# EAGLE library part LCD-16X2 (library Eagle3D-Displays)
XIAMEN - ADM1602K - 16 x 2 LCD Module
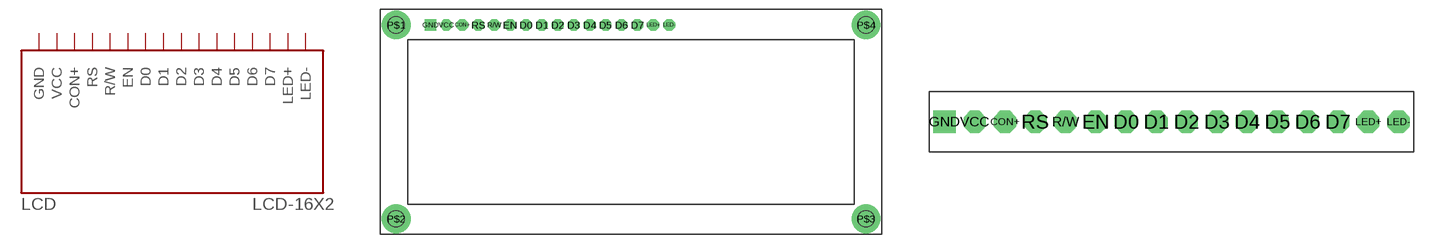
[diagram p0: symbol with the pads of LCD-16X2; footprints LCD-16X2, LCD-PINS]

Designator prefix LCD

## LCD-16X2  [LCD-16X2]
CON+  CON+
D0  D0
D1  D1
D2  D2
D3  D3
D4  D4
D5  D5
D6  D6
D7  D7
EN  EN
GND  GND  pwr
LED+  LED+
LED-  LED-
R/W  R/W
RS  RS
VCC  VCC  pwr

## LCD-16X2-PINS  [LCD-PINS]
Pads as for LCD-16X2

## Footprint LCD-16X2 (pad centres in mm)
16 x 2 Display module
drill 1.016 pad 1.88 octagon: CON+ -27.94,15.24; D0 -17.78,15.24; D1 -15.24,15.24; D2 -12.7,15.24; D3 -10.16,15.24; D4 -7.62,15.24; D5 -5.08,15.24; D6 -2.54,15.24; D7 0,15.24; EN -20.32,15.24; LED+ 2.54,15.24; LED- 5.08,15.24; R/W -22.86,15.24; RS -25.4,15.24; VCC -30.48,15.24
drill 1.016 pad 1.88 square: GND -33.02,15.24
drill 2.438 pad 4.597: P$1 -38.5,15.25; P$2 -38.5,-15.75; P$3 36.5,-15.75; P$4 36.5,15.25

## Footprint LCD-PINS (pad centres in mm)
drill 1.016 pad 1.88 octagon: CON+ -13.97,0; D0 -3.81,0; D1 -1.27,0; D2 1.27,0; D3 3.81,0; D4 6.35,0; D5 8.89,0; D6 11.43,0; D7 13.97,0; EN -6.35,0; LED+ 16.51,0; LED- 19.05,0; R/W -8.89,0; RS -11.43,0; VCC -16.51,0
drill 1.016 pad 1.88 square: GND -19.05,0